# EAGLE library part CH340C (library JLB6_Processor)
WCH-IC usb to uart interface SO16
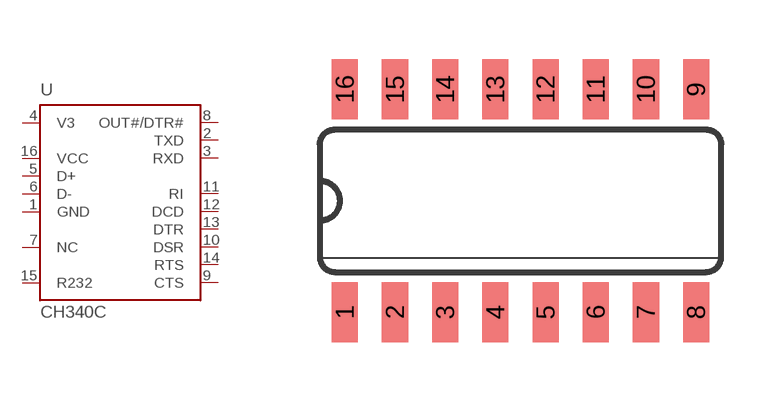
[diagram p44: symbol with the pads of SO16-N; footprint SO16-N]

Designator prefix U

## CH340C  [SO16-N]
1  GND  pwr
2  TXD  out
3  RXD  in
4  V3  pwr
5  D+
6  D-
7  NC  pas
8  OUT#/DTR#  out
9  CTS  pas
10  DSR  pas
11  RI  pas
12  DCD  pas
13  DTR  out
14  RTS  out
15  R232  pas
16  VCC  pwr

## Footprint SO16-N (pad centres in mm)
smd 0.66 x 1.524: 1 -4.445,-2.819; 2 -3.175,-2.819; 3 -1.905,-2.819; 4 -0.635,-2.819; 5 0.635,-2.819; 6 1.905,-2.819; 7 3.175,-2.819; 8 4.445,-2.819; 9 4.445,2.819; 10 3.175,2.819; 11 1.905,2.819; 12 0.635,2.819; 13 -0.635,2.819; 14 -1.905,2.819; 15 -3.175,2.819; 16 -4.445,2.819